# Altium footprint library USB-connector.PcbLib: 1 footprints
Each footprint in its own frame and in the unit in brackets; x right, y up, seen from the top. Pads: shape width x height; smd on the part's side, far side on the other; paste and mask are expansions set on the pad; w line width, h text height; cw(c..) or ccw(c..) is an arc to the next point about the centre after c.
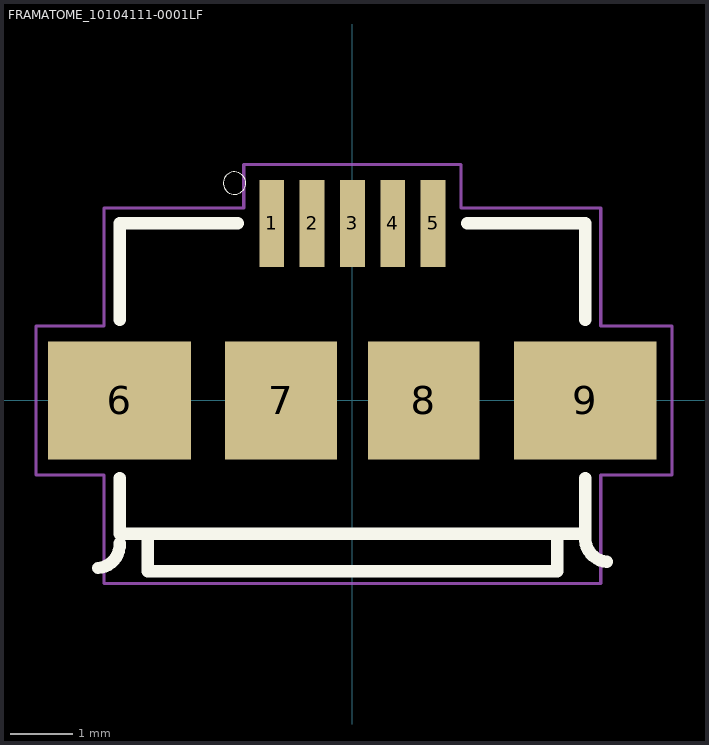
[diagram p0: the footprint, top view; thin cyan lines are the x and y axes]

## FRAMATOME_10104111-0001LF [mm]
pads (9):
  rect 0.4x1.4 smd: 1(-1.3,2.85) 2(-0.65,2.85) 3(0,2.85) 4(0.65,2.85) 5(1.3,2.85)
  rect 2.3x1.9 smd: 6(-3.75,0) 9(3.75,0)
  rect 1.8x1.9 smd: 7(-1.15,0) 8(1.15,0)
Top Overlay:
  circle w0: c-1.9,3.5 r0.18
  lines w0.2: -4.099,-2.7 ccw(c-4.125,-2.325) -3.75,-2.299 ; -3.75,-1.25 -3.75,-2.15 3.75,-2.15 3.75,-1.25 ; -3.75,1.3 -3.75,2.85 -1.85,2.85 ; -3.3,-2.2 -3.3,-2.75 3.3,-2.75 3.3,-2.2 ; 1.85,2.85 3.75,2.85 3.75,1.3 ; 3.75,-2.199 ccw(c4.125,-2.225) 4.099,-2.6
Mechanical 16:
  lines w0.05: -5.1,-1.2 -5.1,1.2 -4,1.2 -4,3.1 -1.75,3.1 -1.75,3.8 1.75,3.8 1.75,3.1 4,3.1 4,1.2 5.15,1.2 5.15,-1.2 4,-1.2 4,-2.95 -4,-2.95 -4,-1.2 -5.1,-1.2